# Altium footprint library Samtec_Library.PcbLib: 1 footprints
Each footprint in its own frame and in the unit in brackets; x right, y up, seen from the top. Pads: shape width x height; smd on the part's side, far side on the other; paste and mask are expansions set on the pad; w line width, h text height; cw(c..) or ccw(c..) is an arc to the next point about the centre after c.
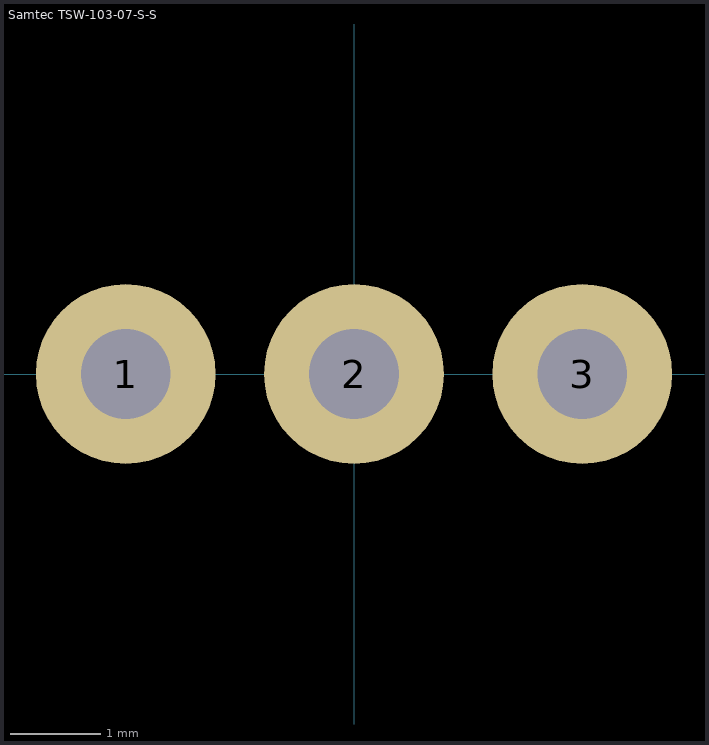
[diagram p0: the footprint, top view; thin cyan lines are the x and y axes]

## Samtec TSW-103-07-S-S [mm] "Samtec TSW-103-07-S-S"
pads (3):
  round 2 hole 1: 1(-2.54,0) 2(0,0) 3(2.54,0)
3D body "TSW-103-07-S-S-LL.x_t": height 8.38, standoff -2.54, extent -3.95,-1.27 3.797,1.27